# EAGLE library part MAX233 (library MinotaurParts)
RS232 level converter
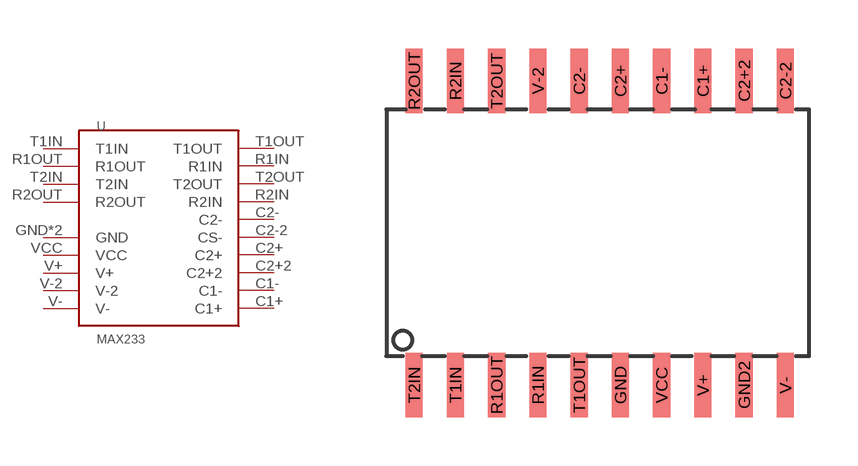
[diagram p3: symbol with the pads of SOIC-20; footprint SOIC-20]

Designator prefix -

## MAX233  [SOIC-20]
C1+  C1+
C1-  C1-
C2+  C2+
C2+2  C2+2
C2-  C2-
C2-2  CS-
GND  GND
GND2  GND
R1IN  R1IN
R1OUT  R1OUT
R2IN  R2IN
R2OUT  R2OUT
T1IN  T1IN
T1OUT  T1OUT
T2IN  T2IN
T2OUT  T2OUT
V+  V+
V-  V-
V-2  V-2
VCC  VCC

## Footprint SOIC-20 (pad centres in mm)
smd 0.53 x 1.98: C1+ 2.54,4.685; C1- 1.27,4.685; C2+ 0,4.685; C2+2 3.81,4.685; C2- -1.27,4.685; C2-2 5.08,4.685; GND 0,-4.685; GND2 3.81,-4.685; R1IN -2.54,-4.685; R1OUT -3.81,-4.685; R2IN -5.08,4.685; R2OUT -6.35,4.685; T1IN -5.08,-4.685; T1OUT -1.27,-4.685; T2IN -6.35,-4.685; T2OUT -3.81,4.685; V+ 2.54,-4.685; V- 5.08,-4.685; V-2 -2.54,4.685; VCC 1.27,-4.685